# Altium footprint library DS-C14FX10B-P06D01A.PcbLib: 1 footprints
Each footprint in its own frame and in the unit in brackets; x right, y up, seen from the top. Pads: shape width x height; smd on the part's side, far side on the other; paste and mask are expansions set on the pad; w line width, h text height; cw(c..) or ccw(c..) is an arc to the next point about the centre after c.
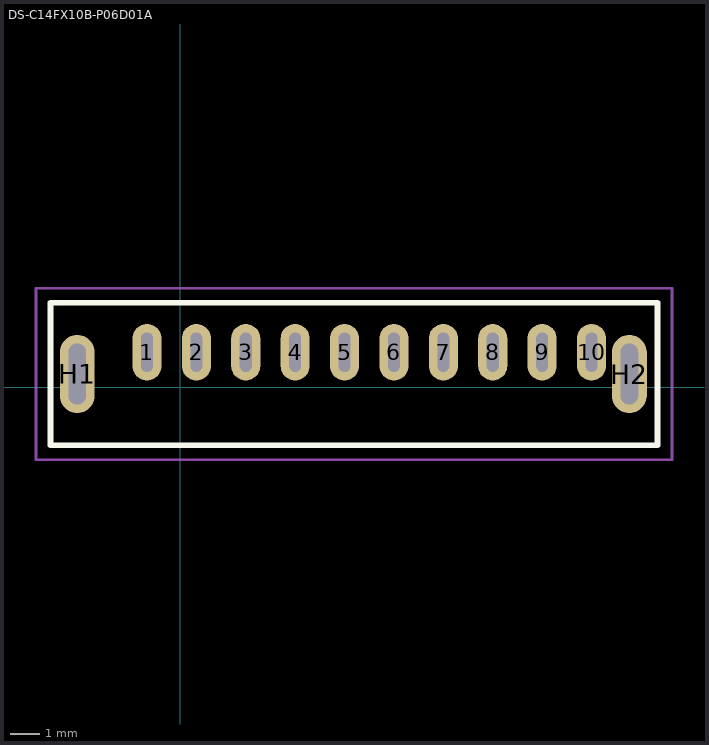
[diagram p0: the footprint, top view; thin cyan lines are the x and y axes]

## DS-C14FX10B-P06D01A [mm]
pads (12):
  oval 1x1.95 hole 0.4 slot 1.35 at 90 deg: 1(-1.15,1.2) 2(0.55,1.2) 3(2.25,1.2) 4(3.95,1.2) 5(5.65,1.2) 6(7.35,1.2) 7(9.05,1.2) 8(10.75,1.2) 9(12.45,1.2) 10(14.15,1.2)
  oval 1.2x2.7 hole 0.6 slot 2.1 at 90 deg: H1(-3.55,0.45) H2(15.45,0.45)
Top Overlay:
  lines w0.2: -4.475,-2 16.425,-2 16.425,2.9 -4.475,2.9 -4.475,-2
Top Courtyard:
  lines w0.1: -4.975,-2.5 16.925,-2.5 16.925,3.4 -4.975,3.4 -4.975,-2.5
3D body "DS-C14FX10B-P06D.stp": height 1.05, standoff -5.35, extent -4.475,-2 16.425,2.9